# Altium footprint library CON 2x10x.5Gen.PcbLib: 1 footprints
Each footprint in its own frame and in the unit in brackets; x right, y up, seen from the top. Pads: shape width x height; smd on the part's side, far side on the other; paste and mask are expansions set on the pad; w line width, h text height; cw(c..) or ccw(c..) is an arc to the next point about the centre after c.
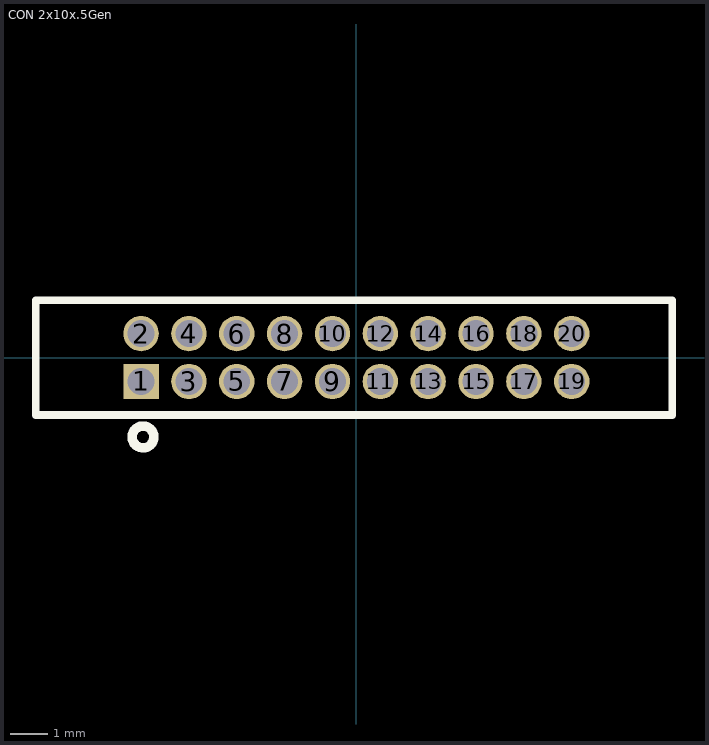
[diagram p0: the footprint, top view; thin cyan lines are the x and y axes]

## CON 2x10x.5Gen [mil]
pads (20):
  rect 37x37 hole 28: 1(-225,-25)
  round 37 hole 28: 2(-225,25) 3(-175,-25) 4(-175,25) 5(-125,-25) 6(-125,25) 7(-75,-25) 8(-75,25) 9(-25,-25) 10(-25,25) 11(25,-25) 12(25,25) 13(75,-25) 14(75,25) 15(125,-25) 16(125,25) 17(175,-25) 18(175,25) 19(225,-25) 20(225,25)
TopOverlay:
  circle w10: c-223,-83 r11.4
  lines w8: -335,-60 -335,60 330,60 330,-60 -335,-60